# EAGLE library part SLG59M1717V (library SLG59M1717V)
Operating from a 2.5V to 5.5V power supply and fully specified over the -40Cto85C Industrial temperature range, the SLG59M1717V is a highperformance 4m, 5A singlechannel nFET load switch designed for all 0.8V to 5.5V power rail applications. The SLG59M1717V features adjustable inrush current control which is achieved by adjusting the VOUT slew rate with an external capacitor. Using a proprietary MOSFET design, the SLG59M1717V achieves a stable 4m RDSON across a wide input/supply voltage ran Source: Datasheet <https://www.renesas.com/us/en/products/power-power-management/power-supply-support/hot-swap-ideal-diodeoring-fet-controllers/load-switches/slg59m1717v-greenfet-single-n-channel-load-switch>
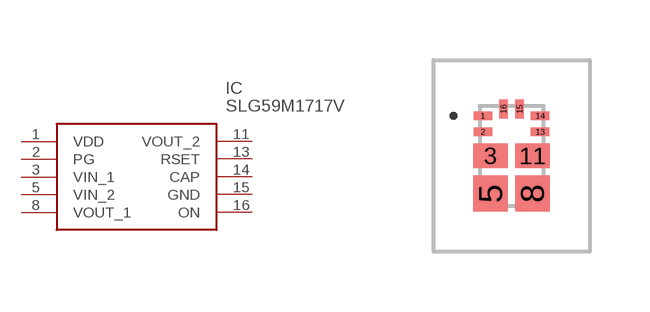
[diagram p0: symbol with the pads of SLG59M1717V; footprint SLG59M1717V]

Designator prefix IC

## SLG59M1717V (Description: Operating from a 2.5V to 5.5V power supply and fully specified over the -40Cto85C Industrial temperature range, the SLG59M1717V is a highperformance 4m, 5A singlechannel nFET load switch designed for all 0.8V to 5.5V power rail applications. The SLG59M1717V features adjustable inrush current control which is achieved by adjusting the VOUT slew rate with an external capacitor. Using a proprietary MOSFET design, the SLG59M1717V achieves a stable 4m RDSON across a wide input/supply voltage ran; Height: 0.6mm; Manufacturer_Name: Renesas Electronics; Manufacturer_Part_Number: SLG59M1717V; Mouser_Part_Number: 402-SLG59M1717V; Mouser_Price-Stock: https://www.mouser.co.uk/ProductDetail/Renesas-Dialog/SLG59M1717V?qs=%252B6g0mu59x7KRkBuJjinPDA%3D%3D)  [SLG59M1717V]
1  VDD
2  PG
3  VIN_1
5  VIN_2
8  VOUT_1
11  VOUT_2
13  RSET
14  CAP
15  GND
16  ON

## Footprint SLG59M1717V (pad centres in mm)
SLG59M1717V-1
smd 0.465 x 0.21: 1 -0.717,1; 2 -0.717,0.6; 13 0.717,0.6; 14 0.717,1
smd 0.855 x 0.61: 3 -0.523,0; 11 0.523,0
smd 0.855 x 0.905: 5 -0.523,-0.947; 8 0.523,-0.947
smd 0.21 x 0.465: 15 0.2,1.168; 16 -0.2,1.168